# EAGLE library part HEADER-01X050-2_54MM (library FlashPCB_Connectors)
Header 1x50 - Header Vertical 50POS 2.54MM Technical Specifications: Pitch: 0.1" (2.54mm)
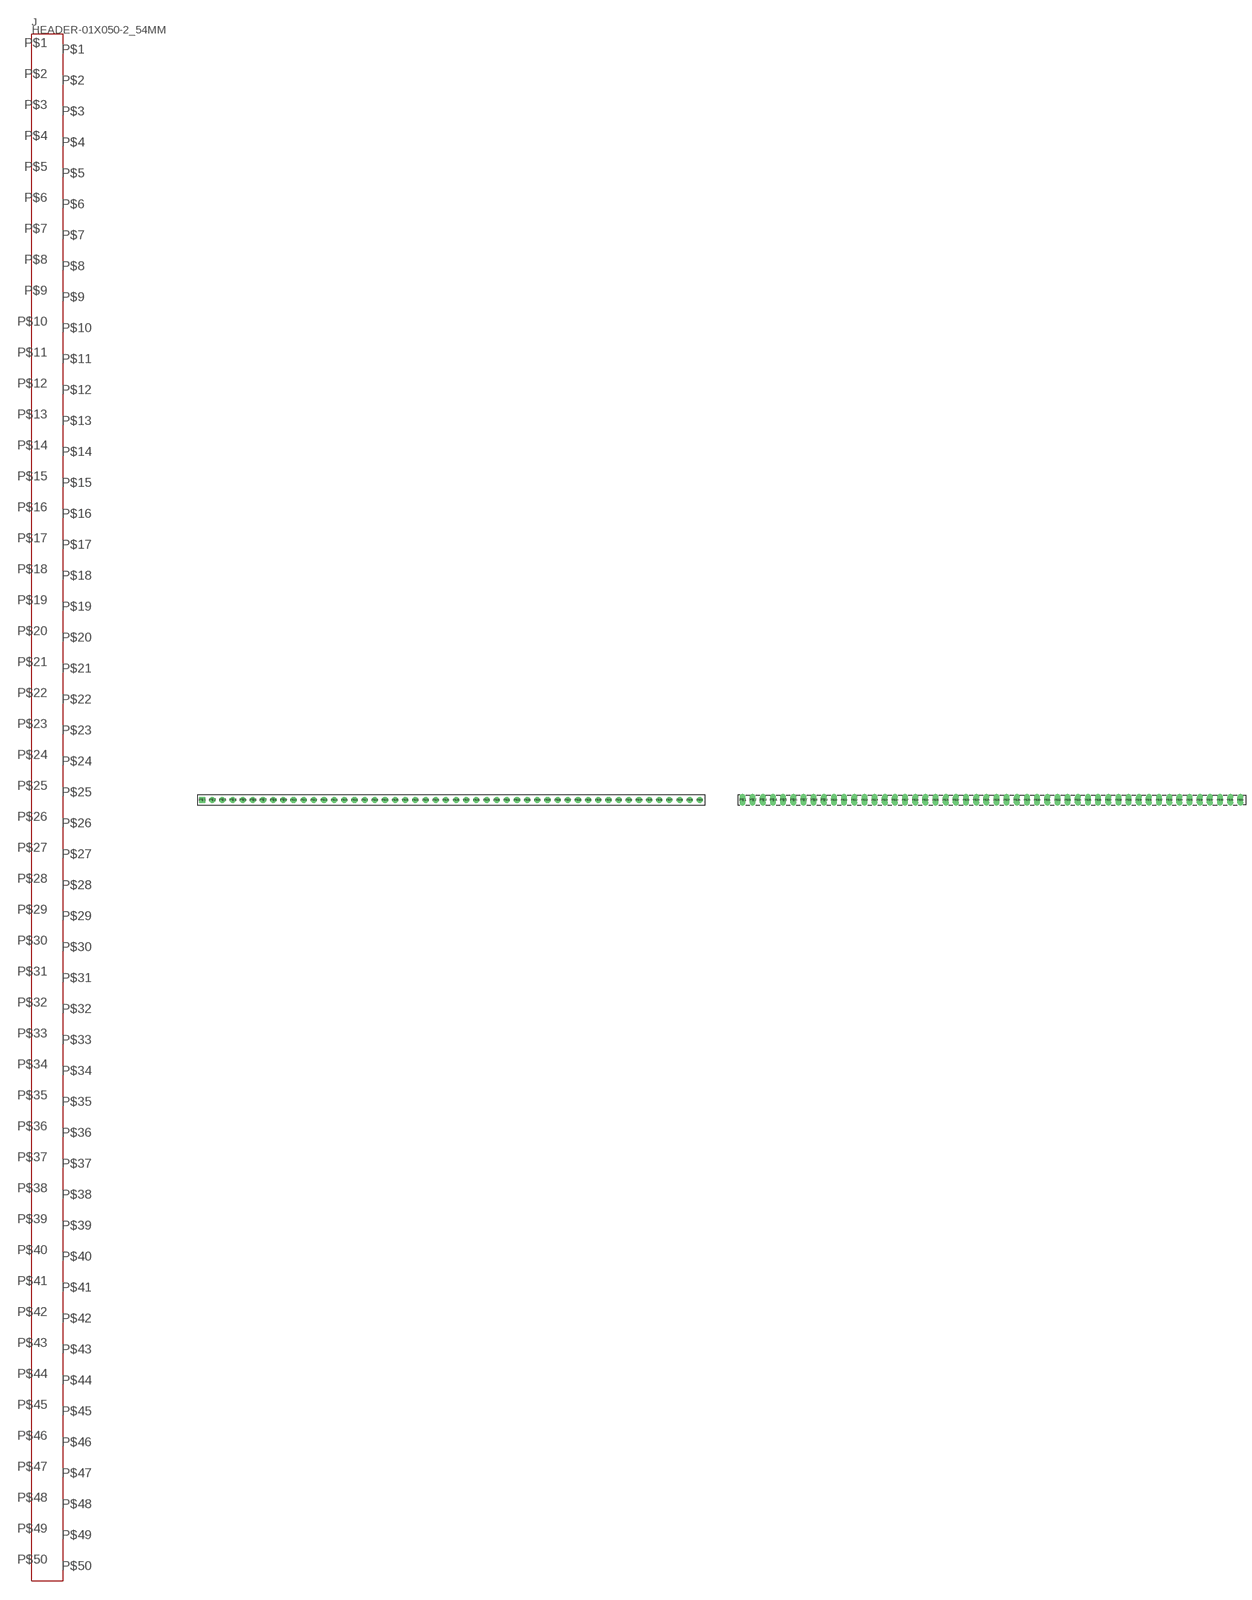
[diagram p53: symbol with the pads of HEADER-THT-01X050-2_54MM; footprints HEADER-THT-01X050-2_54MM, HEADER-THT-LONG-01X050-2_54MM]

Designator prefix J

## HEADER-01X050-2_54MMSTANDARD  [HEADER-THT-01X050-2_54MM]
P$1  P$1
P$2  P$2
P$3  P$3
P$4  P$4
P$5  P$5
P$6  P$6
P$7  P$7
P$8  P$8
P$9  P$9
P$10  P$10
P$11  P$11
P$12  P$12
P$13  P$13
P$14  P$14
P$15  P$15
P$16  P$16
P$17  P$17
P$18  P$18
P$19  P$19
P$20  P$20
P$21  P$21
P$22  P$22
P$23  P$23
P$24  P$24
P$25  P$25
P$26  P$26
P$27  P$27
P$28  P$28
P$29  P$29
P$30  P$30
P$31  P$31
P$32  P$32
P$33  P$33
P$34  P$34
P$35  P$35
P$36  P$36
P$37  P$37
P$38  P$38
P$39  P$39
P$40  P$40
P$41  P$41
P$42  P$42
P$43  P$43
P$44  P$44
P$45  P$45
P$46  P$46
P$47  P$47
P$48  P$48
P$49  P$49
P$50  P$50

## HEADER-01X050-2_54MMOVAL_PADS  [HEADER-THT-LONG-01X050-2_54MM]
Pads as for HEADER-THT-01X050-2_54MM

## HEADER-01X050-2_54MMSTANDARD_NOSILK  [HEADER-THT-NOSILK-01X050-2_54MM]
Pads as for HEADER-THT-01X050-2_54MM

## HEADER-01X050-2_54MMOVAL_PADS_NOSILK  [HEADER-THT-LONG-NOSILK-01X050-2_54MM]
Pads as for HEADER-THT-01X050-2_54MM

## Footprint HEADER-THT-01X050-2_54MM (pad centres in mm)
drill 1.016 square: P$1 0,0
drill 1.016: P$2 2.54,0; P$3 5.08,0; P$4 7.62,0; P$5 10.16,0; P$6 12.7,0; P$7 15.24,0; P$8 17.78,0; P$9 20.32,0; P$10 22.86,0; P$11 25.4,0; P$12 27.94,0; P$13 30.48,0; P$14 33.02,0; P$15 35.56,0; P$16 38.1,0; P$17 40.64,0; P$18 43.18,0; P$19 45.72,0; P$20 48.26,0; P$21 50.8,0; P$22 53.34,0; P$23 55.88,0; P$24 58.42,0; P$25 60.96,0; P$26 63.5,0; P$27 66.04,0; P$28 68.58,0; P$29 71.12,0; P$30 73.66,0; P$31 76.2,0; P$32 78.74,0; P$33 81.28,0; P$34 83.82,0; P$35 86.36,0; P$36 88.9,0; P$37 91.44,0; P$38 93.98,0; P$39 96.52,0; P$40 99.06,0; P$41 101.6,0; P$42 104.14,0; P$43 106.68,0; P$44 109.22,0; P$45 111.76,0; P$46 114.3,0; P$47 116.84,0; P$48 119.38,0; P$49 121.92,0; P$50 124.46,0

## Footprint HEADER-THT-LONG-01X050-2_54MM (pad centres in mm)
drill 1.016 long: P$1 0,0; P$2 2.54,0; P$3 5.08,0; P$4 7.62,0; P$5 10.16,0; P$6 12.7,0; P$7 15.24,0; P$8 17.78,0; P$9 20.32,0; P$10 22.86,0; P$11 25.4,0; P$12 27.94,0; P$13 30.48,0; P$14 33.02,0; P$15 35.56,0; P$16 38.1,0; P$17 40.64,0; P$18 43.18,0; P$19 45.72,0; P$20 48.26,0; P$21 50.8,0; P$22 53.34,0; P$23 55.88,0; P$24 58.42,0; P$25 60.96,0; P$26 63.5,0; P$27 66.04,0; P$28 68.58,0; P$29 71.12,0; P$30 73.66,0; P$31 76.2,0; P$32 78.74,0; P$33 81.28,0; P$34 83.82,0; P$35 86.36,0; P$36 88.9,0; P$37 91.44,0; P$38 93.98,0; P$39 96.52,0; P$40 99.06,0; P$41 101.6,0; P$42 104.14,0; P$43 106.68,0; P$44 109.22,0; P$45 111.76,0; P$46 114.3,0; P$47 116.84,0; P$48 119.38,0; P$49 121.92,0; P$50 124.46,0

## Footprint HEADER-THT-NOSILK-01X050-2_54MM (pad centres in mm)
drill 1.016 square: P$1 0,0
drill 1.016: P$2 2.54,0; P$3 5.08,0; P$4 7.62,0; P$5 10.16,0; P$6 12.7,0; P$7 15.24,0; P$8 17.78,0; P$9 20.32,0; P$10 22.86,0; P$11 25.4,0; P$12 27.94,0; P$13 30.48,0; P$14 33.02,0; P$15 35.56,0; P$16 38.1,0; P$17 40.64,0; P$18 43.18,0; P$19 45.72,0; P$20 48.26,0; P$21 50.8,0; P$22 53.34,0; P$23 55.88,0; P$24 58.42,0; P$25 60.96,0; P$26 63.5,0; P$27 66.04,0; P$28 68.58,0; P$29 71.12,0; P$30 73.66,0; P$31 76.2,0; P$32 78.74,0; P$33 81.28,0; P$34 83.82,0; P$35 86.36,0; P$36 88.9,0; P$37 91.44,0; P$38 93.98,0; P$39 96.52,0; P$40 99.06,0; P$41 101.6,0; P$42 104.14,0; P$43 106.68,0; P$44 109.22,0; P$45 111.76,0; P$46 114.3,0; P$47 116.84,0; P$48 119.38,0; P$49 121.92,0; P$50 124.46,0

## Footprint HEADER-THT-LONG-NOSILK-01X050-2_54MM (pad centres in mm)
drill 1.016 long: P$1 0,0; P$2 2.54,0; P$3 5.08,0; P$4 7.62,0; P$5 10.16,0; P$6 12.7,0; P$7 15.24,0; P$8 17.78,0; P$9 20.32,0; P$10 22.86,0; P$11 25.4,0; P$12 27.94,0; P$13 30.48,0; P$14 33.02,0; P$15 35.56,0; P$16 38.1,0; P$17 40.64,0; P$18 43.18,0; P$19 45.72,0; P$20 48.26,0; P$21 50.8,0; P$22 53.34,0; P$23 55.88,0; P$24 58.42,0; P$25 60.96,0; P$26 63.5,0; P$27 66.04,0; P$28 68.58,0; P$29 71.12,0; P$30 73.66,0; P$31 76.2,0; P$32 78.74,0; P$33 81.28,0; P$34 83.82,0; P$35 86.36,0; P$36 88.9,0; P$37 91.44,0; P$38 93.98,0; P$39 96.52,0; P$40 99.06,0; P$41 101.6,0; P$42 104.14,0; P$43 106.68,0; P$44 109.22,0; P$45 111.76,0; P$46 114.3,0; P$47 116.84,0; P$48 119.38,0; P$49 121.92,0; P$50 124.46,0